# EAGLE library part S1D13706 (library Epson_LCD_Controller)
LCD Graphics Controller with on-chip 80K SRAM display buffer memory.
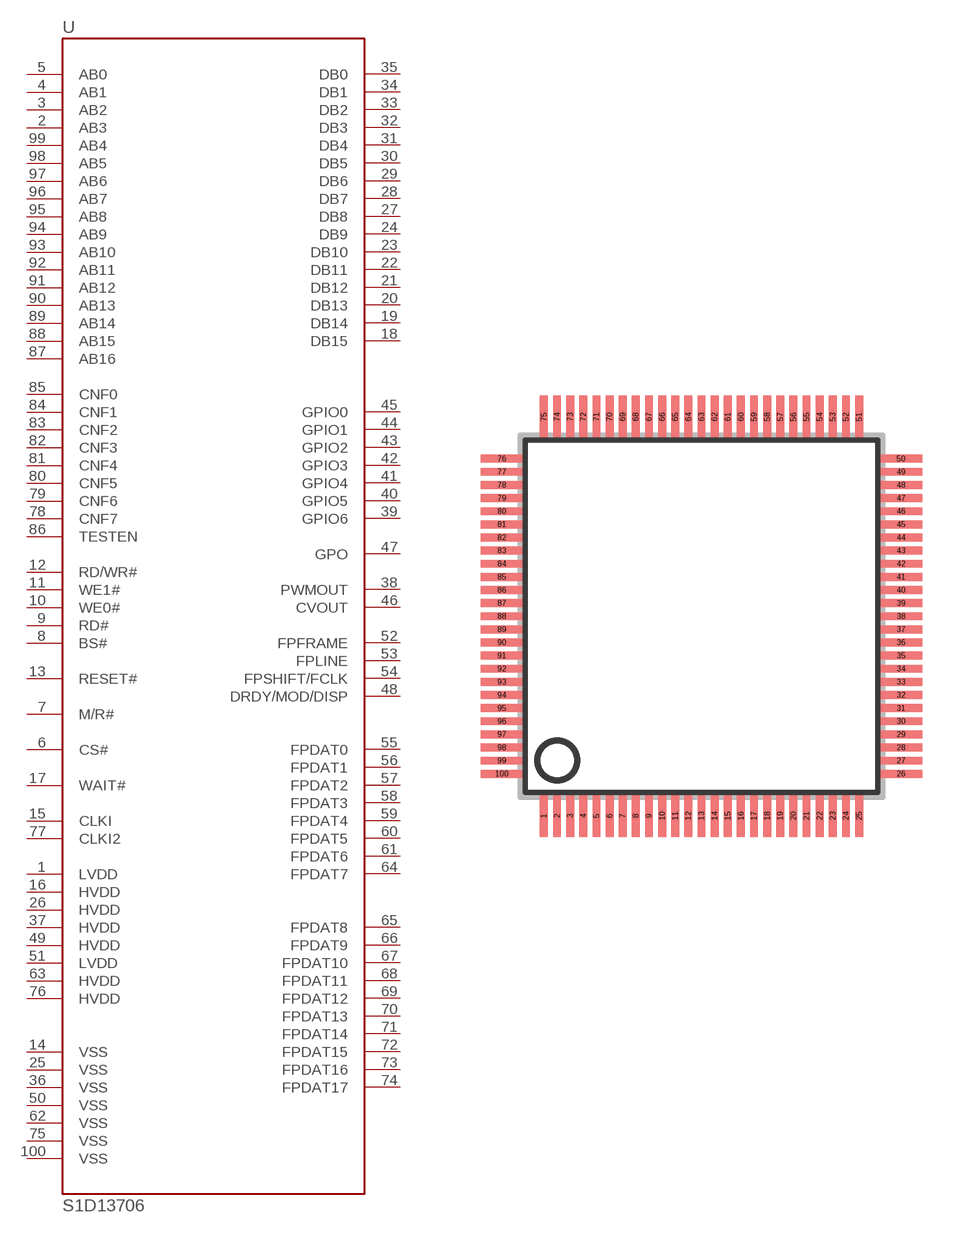
[diagram p1: symbol with the pads of SQFP-S-14X14-100; footprint SQFP-S-14X14-100]

Designator prefix -

## S1D13706  [SQFP-S-14X14-100]
1  LVDD  pas
2  AB3  in
3  AB2  in
4  AB1  in
5  AB0  in
6  CS#  in
7  M/R#  in
8  BS#  in
9  RD#  in
10  WE0#  in
11  WE1#  in
12  RD/WR#  in
13  RESET#  in
14  VSS  pas
15  CLKI  in
16  HVDD  pas
17  WAIT#  out
18  DB15
19  DB14
20  DB13
21  DB12
22  DB11
23  DB10
24  DB9
25  VSS  pas
26  HVDD  pas
27  DB8
28  DB7
29  DB6
30  DB5
31  DB4
32  DB3
33  DB2
34  DB1
35  DB0
36  VSS  pas
37  HVDD  pas
38  PWMOUT  out
39  GPIO6
40  GPIO5
41  GPIO4
42  GPIO3
43  GPIO2
44  GPIO1
45  GPIO0
46  CVOUT  out
47  GPO  out
48  DRDY/MOD/DISP  out
49  HVDD  pas
50  VSS  pas
51  LVDD  pas
52  FPFRAME  out
53  FPLINE  out
54  FPSHIFT/FCLK  out
55  FPDAT0  out
56  FPDAT1  out
57  FPDAT2  out
58  FPDAT3  out
59  FPDAT4  out
60  FPDAT5  out
61  FPDAT6  out
62  VSS  pas
63  HVDD  pas
64  FPDAT7  out
65  FPDAT8  out
66  FPDAT9  out
67  FPDAT10  out
68  FPDAT11  out
69  FPDAT12  out
70  FPDAT13  out
71  FPDAT14  out
72  FPDAT15  out
73  FPDAT16  out
74  FPDAT17  out
75  VSS  pas
76  HVDD  pas
77  CLKI2  in
78  CNF7  in
79  CNF6  in
80  CNF5  in
81  CNF4  in
82  CNF3  in
83  CNF2  in
84  CNF1  in
85  CNF0  in
86  TESTEN  in
87  AB16  in
88  AB15  in
89  AB14  in
90  AB13  in
91  AB12  in
92  AB11  in
93  AB10  in
94  AB9  in
95  AB8  in
96  AB7  in
97  AB6  in
98  AB5  in
99  AB4  in
100  VSS  pas

## Footprint SQFP-S-14X14-100 (pad centres in mm)
100-Pin TQFP shrink quad flat pack, square
smd 0.3 x 1.6: 1 -6,-7.6; 2 -5.5,-7.6; 3 -5,-7.6; 4 -4.5,-7.6; 5 -4,-7.6; 6 -3.5,-7.6; 7 -3,-7.6; 8 -2.5,-7.6; 9 -2,-7.6; 10 -1.5,-7.6; 11 -1,-7.6; 12 -0.5,-7.6; 13 0,-7.6; 14 0.5,-7.6; 15 1,-7.6; 16 1.5,-7.6; 17 2,-7.6; 18 2.5,-7.6; 19 3,-7.6; 20 3.5,-7.6; 21 4,-7.6; 22 4.5,-7.6; 23 5,-7.6; 24 5.5,-7.6; 25 6,-7.6; 51 6,7.6; 52 5.5,7.6; 53 5,7.6; 54 4.5,7.6; 55 4,7.6; 56 3.5,7.6; 57 3,7.6; 58 2.5,7.6; 59 2,7.6; 60 1.5,7.6; 61 1,7.6; 62 0.5,7.6; 63 0,7.6; 64 -0.5,7.6; 65 -1,7.6; 66 -1.5,7.6; 67 -2,7.6; 68 -2.5,7.6; 69 -3,7.6; 70 -3.5,7.6; 71 -4,7.6; 72 -4.5,7.6; 73 -5,7.6; 74 -5.5,7.6; 75 -6,7.6
smd 1.6 x 0.3: 26 7.6,-6; 27 7.6,-5.5; 28 7.6,-5; 29 7.6,-4.5; 30 7.6,-4; 31 7.6,-3.5; 32 7.6,-3; 33 7.6,-2.5; 34 7.6,-2; 35 7.6,-1.5; 36 7.6,-1; 37 7.6,-0.5; 38 7.6,0; 39 7.6,0.5; 40 7.6,1; 41 7.6,1.5; 42 7.6,2; 43 7.6,2.5; 44 7.6,3; 45 7.6,3.5; 46 7.6,4; 47 7.6,4.5; 48 7.6,5; 49 7.6,5.5; 50 7.6,6; 76 -7.6,6; 77 -7.6,5.5; 78 -7.6,5; 79 -7.6,4.5; 80 -7.6,4; 81 -7.6,3.5; 82 -7.6,3; 83 -7.6,2.5; 84 -7.6,2; 85 -7.6,1.5; 86 -7.6,1; 87 -7.6,0.5; 88 -7.6,0; 89 -7.6,-0.5; 90 -7.6,-1; 91 -7.6,-1.5; 92 -7.6,-2; 93 -7.6,-2.5; 94 -7.6,-3; 95 -7.6,-3.5; 96 -7.6,-4; 97 -7.6,-4.5; 98 -7.6,-5; 99 -7.6,-5.5; 100 -7.6,-6